# Altium schematic symbol library lib-con.SchLib: 47 symbols
Pins are listed as number, name and electrical type; pins without a type are passive.

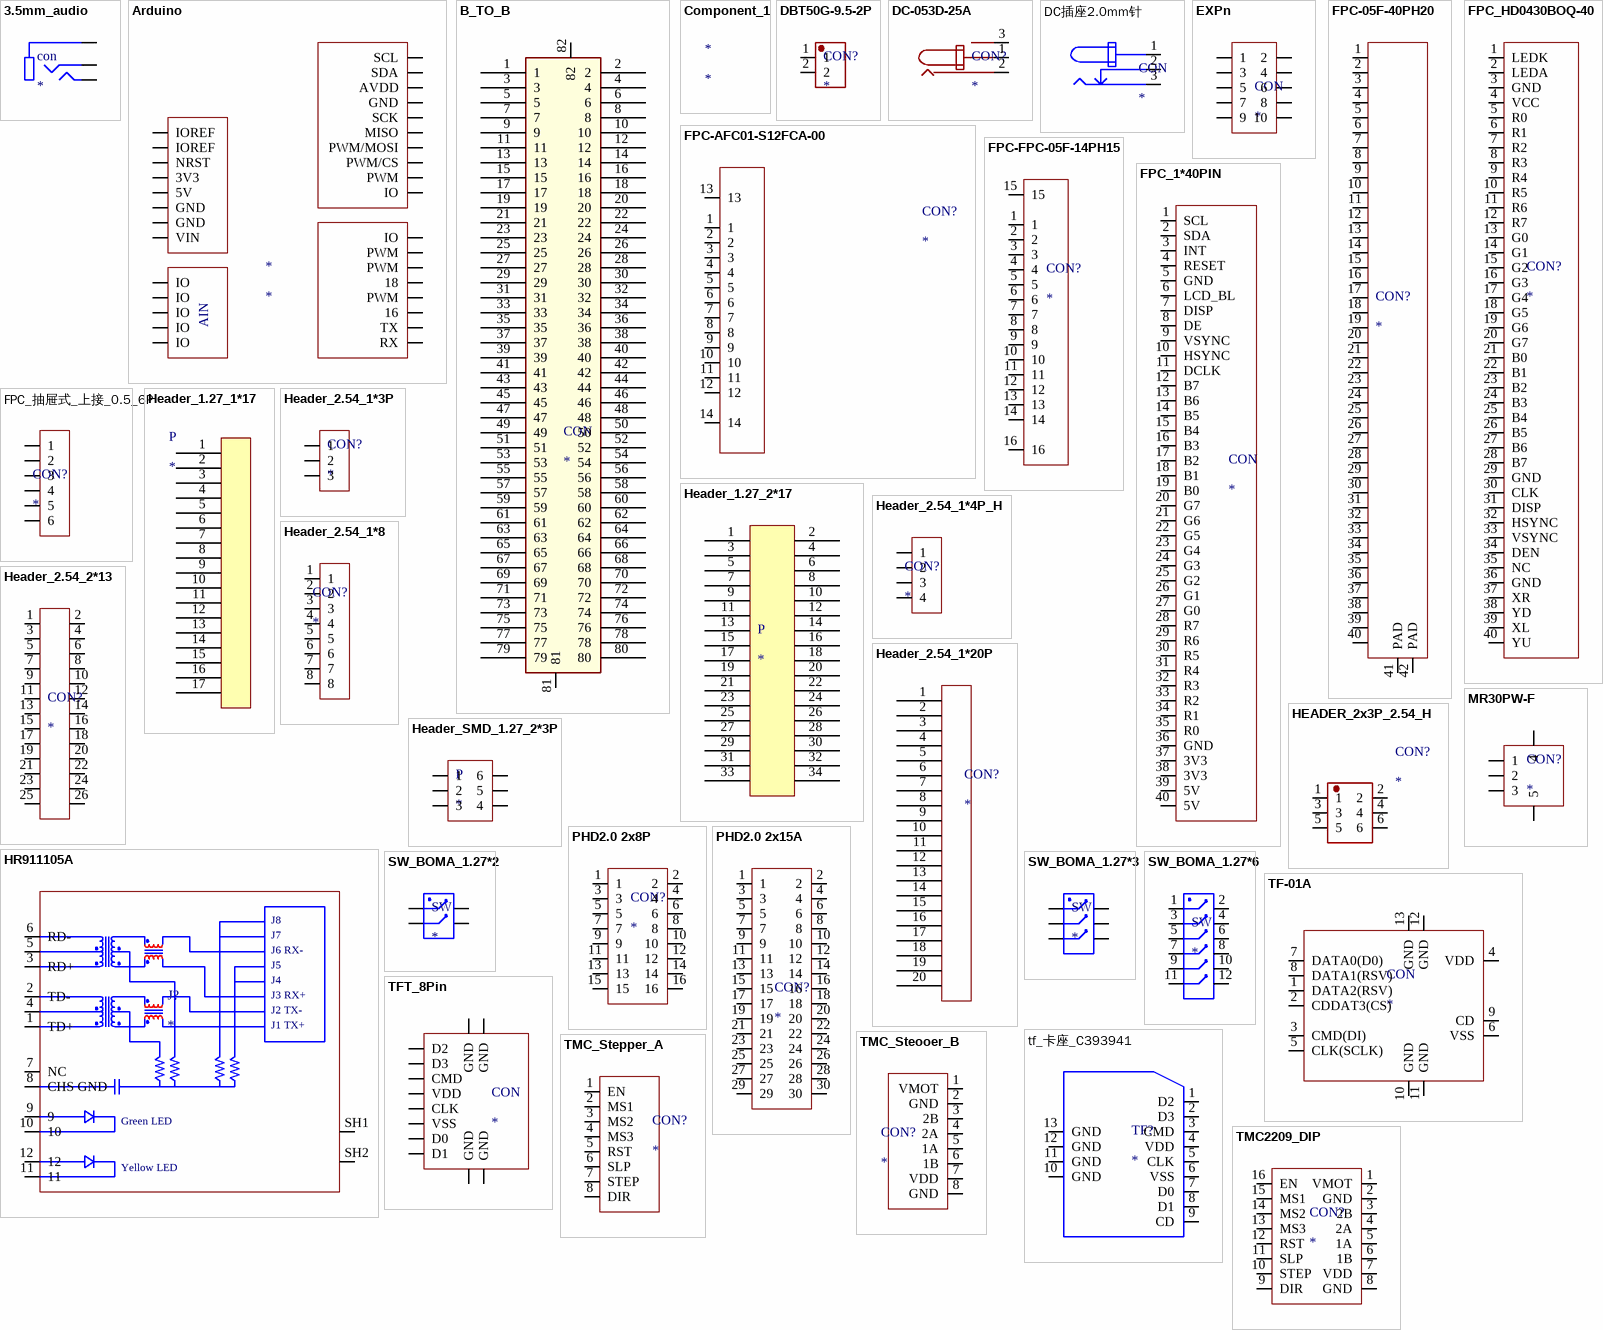
[diagram p0: symbols 3.5mm_audio to TMC_Stepper_A]

## 3.5mm_audio
designator con
footprint 3.5MM_AUDIO
pins: 1 GND, 2, 3

## Arduino
designator *
pins: 1 IOREF, 2 IOREF, 3 NRST, 4 3V3, 5 5V, 6 GND, 7 GND, 8 VIN, 9 IO, 10 IO, 11 IO, 12 IO, 13 IO, 14 RX, 15 TX, 16, 17 PWM, 18, 19 PWM, 20 PWM, 21 IO, 22 IO, 23 PWM, 24 PWM/CS, 25 PWM/MOSI, 26 MISO, 27 SCK, 28 GND, 29 AVDD, 30 SDA, 31 SCL
text: AIN

## B_TO_B
designator CON
pins: 1, 2, 3, 4, 5, 6, 7, 8, 9, 10, 11, 12, 13, 14, 15, 16, 17, 18, 19, 20, 21, 22, 23, 24, 25, 26, 27, 28, 29, 30, 31, 32, 33, 34, 35, 36, 37, 38, 39, 40, 41, 42, 43, 44, 45, 46, 47, 48, 49, 50, 51, 52, 53, 54, 55, 56, 57, 58, 59, 60, 61, 62, 63, 64, 65, 66, 67, 68, 69, 70, 71, 72, 73, 74, 75, 76, 77, 78, 79, 80, 81, 82

## Component_1
designator *

## DBT50G-9.5-2P
designator CON?
立创商城-C395958
pins: 1, 2

## DC-053D-25A
designator CON?
立创商城-C2686352
pins: 1, 2, 3

## DC插座2.0mm针
designator CON
C521451
footprint DC插座2.0mm
pins: 1, 2, 3

## EXPn
designator CON
footprint EXPn
pins: 1, 2, 3, 4, 5, 6, 7, 8, 9, 10

## FPC-05F-40PH20
designator CON?
FPC/FFC连接器 立创商城-C2856812
pins: 1, 2, 3, 4, 5, 6, 7, 8, 9, 10, 11, 12, 13, 14, 15, 16, 17, 18, 19, 20, 21, 22, 23, 24, 25, 26, 27, 28, 29, 30, 31, 32, 33, 34, 35, 36, 37, 38, 39, 40, 41 PAD, 42 PAD

## FPC-AFC01-S12FCA-00
designator CON?
FPC 1*12P 立创商城-C262661
pins: 1, 2, 3, 4, 5, 6, 7, 8, 9, 10, 11, 12, 13, 14

## FPC-FPC-05F-14PH15
designator CON?
立创商城-C2856818
footprint FPC-FPC-05F-14PH15
pins: 1, 2, 3, 4, 5, 6, 7, 8, 9, 10, 11, 12, 13, 14, 15, 16

## FPC_1*40PIN
designator CON
FPC_1*40
pins: 1 SCL, 2 SDA, 3 INT, 4 RESET, 5 GND, 6 LCD_BL, 7 DISP, 8 DE, 9 VSYNC, 10 HSYNC, 11 DCLK, 12 B7, 13 B6, 14 B5, 15 B4, 16 B3, 17 B2, 18 B1, 19 B0, 20 G7, 21 G6, 22 G5, 23 G4, 24 G3, 25 G2, 26 G1, 27 G0, 28 R7, 29 R6, 30 R5, 31 R4, 32 R3, 33 R2, 34 R1, 35 R0, 36 GND, 37 3V3, 38 3V3, 39 5V, 40 5V

## FPC_HD0430BOQ-40
designator CON?
深圳市华阳显示有限公司
footprint FPC-0.5-40P
pins: 1 LEDK, 2 LEDA, 3 GND, 4 VCC, 5 R0, 6 R1, 7 R2, 8 R3, 9 R4, 10 R5, 11 R6, 12 R7, 13 G0, 14 G1, 15 G2, 16 G3, 17 G4, 18 G5, 19 G6, 20 G7, 21 B0, 22 B1, 23 B2, 24 B3, 25 B4, 26 B5, 27 B6, 28 B7, 29 GND, 30 CLK, 31 DISP, 32 HSYNC, 33 VSYNC, 34 DEN, 35 NC, 36 GND, 37 XR, 38 YD, 39 XL, 40 YU

## FPC_抽屉式_上接_0.5_6P
designator CON?
pins: 1, 2, 3, 4, 5, 6

## Header_1.27_1*17
designator P
pins: 1, 2, 3, 4, 5, 6, 7, 8, 9, 10, 11, 12, 13, 14, 15, 16, 17

## Header_1.27_2*17
designator P
footprint Header_F_1.27_2X17
pins: 1, 2, 3, 4, 5, 6, 7, 8, 9, 10, 11, 12, 13, 14, 15, 16, 17, 18, 19, 20, 21, 22, 23, 24, 25, 26, 27, 28, 29, 30, 31, 32, 33, 34

## Header_2.54_1*3P
designator CON?
footprint HEADER_1*3P
pins: 1, 2, 3

## Header_2.54_1*4P_H
designator CON?
footprint HEADER_2.45_1*4P_H
pins: 1, 2, 3, 4

## Header_2.54_1*8
designator CON?
排针 2.54 8P
pins: 1, 2, 3, 4, 5, 6, 7, 8

## Header_2.54_1*20P
designator CON?
pins: 1, 2, 3, 4, 5, 6, 7, 8, 9, 10, 11, 12, 13, 14, 15, 16, 17, 18, 19, 20

## Header_2.54_2*13
designator CON?
排针 2.54 2*13P
footprint HEADER_2.45_2X13P
pins: 1, 2, 3, 4, 5, 6, 7, 8, 9, 10, 11, 12, 13, 14, 15, 16, 17, 18, 19, 20, 21, 22, 23, 24, 25, 26

## HEADER_2x3P_2.54_H
designator CON?
排针
footprint HEADER_2x3P_2.54_H
pins: 1, 2, 3, 4, 5, 6

## Header_SMD_1.27_2*3P
designator P
贴片排针
footprint Header_SMD_1.27X3
pins: 1, 2, 3, 4, 5, 6

## HR911105A
designator J?
RJ45 立创商城-C12074
footprint RJ45-HR911105A
footprint RJ45-HR911105A
pins: 1 TD+, 2 TD-, 3 RD+, 4, 5, 6 RD-, 7 NC, 8 CHS GND, 9, 10, 11, 12, SH1, SH2
text: J8; J7; J6 RX-; J5; J4; J3 RX+; J2 TX-; J1 TX+; Green LED; Yellow LED

## MR30PW-F
designator CON?
立创商城-C19268036
footprint MR30PW-F
pins: 1, 2, 3, 4, 5

## PHD2.0 2x8P
designator CON?
立创商城- C5196933
footprint PHD-2*8ALT
pins: 1, 2, 3, 4, 5, 6, 7, 8, 9, 10, 11, 12, 13, 14, 15, 16

## PHD2.0 2x15A
designator CON?
立创商城-C2845626
footprint PHD_2*15A
pins: 1, 2, 3, 4, 5, 6, 7, 8, 9, 10, 11, 12, 13, 14, 15, 16, 17, 18, 19, 20, 21, 22, 23, 24, 25, 26, 27, 28, 29, 30

## SW_BOMA_1.27*2
designator SW
拨码开关
footprint SW_BOMA_1.27*2P
pins: 1, 2, 3, 4

## SW_BOMA_1.27*3
designator SW
拨码开关
pins: 1, 2, 3, 4, 5, 6

## SW_BOMA_1.27*6
designator SW
拨码开关
footprint SW_BOMA_1.27*6P
pins: 1, 2, 3, 4, 5, 6, 7, 8, 9, 10, 11, 12

## TF-01A
designator CON
footprint TF-01A
pins: 1 DATA2(RSV), 2 CDDAT3(CS), 3 CMD(DI), 4 VDD, 5 CLK(SCLK), 6 VSS, 7 DATA0(D0), 8 DATA1(RSV), 9 CD, 10 GND, 11 GND, 12 GND, 13 GND

## tf_卡座_C393941
designator TF?
立创商城-C393941
footprint TF_SMD_C393941
pins: 1 D2, 2 D3, 3 CMD, 4 VDD, 5 CLK, 6 VSS, 7 D0, 8 D1, 9 CD, 10 GND, 11 GND, 12 GND, 13 GND

## TFT_8Pin
designator CON
立创商城-C86574
footprint SD_TFT
pins: 1 D2, 2 D3, 3 CMD, 4 VDD, 5 CLK, 6 VSS, 7 D0, 8 D1, 9 GND, 10 GND, 11 GND, 12 GND

## TMC2209_DIP
designator CON?
MKS TMC2209
footprint TMC2209_DIP
pins: 1 VMOT, 2 GND, 3 2B, 4 2A, 5 1A, 6 1B, 7 VDD, 8 GND, 9 DIR, 10 STEP, 11 SLP, 12 RST, 13 MS3, 14 MS2, 15 MS1, 16 EN

## TMC_Steooer_B
designator CON?
footprint TMC_Stepper
pins: 1 VMOT, 2 GND, 3 2B, 4 2A, 5 1A, 6 1B, 7 VDD, 8 GND

## TMC_Stepper_A
designator CON?
footprint TMC_Stepper
pins: 1 EN, 2 MS1, 3 MS2, 4 MS3, 5 RST, 6 SLP, 7 STEP, 8 DIR

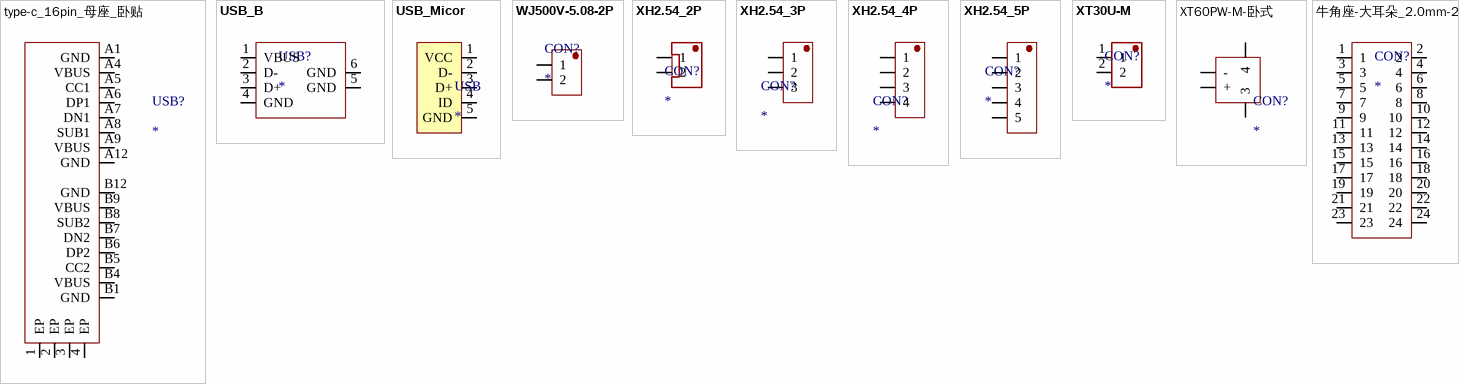
[diagram p1: symbols type-c_16pin_母座_卧贴 to 牛角座-大耳朵_2.0mm-2x10p]

## type-c_16pin_母座_卧贴
designator USB?
立创商城-C709357
pins: 1 EP, 2 EP, 3 EP, 4 EP, A1 GND, A4 VBUS, A5 CC1, A6 DP1, A7 DN1, A8 SUB1, A9 VBUS, A12 GND, B1 GND, B4 VBUS, B5 CC2, B6 DP2, B7 DN2, B8 SUB2, B9 VBUS, B12 GND

## USB_B
designator USB?
立创商城-C498173
footprint USB_B
pins: 1 VBUS, 2 D-, 3 D+, 4 GND, 5 GND, 6 GND

## USB_Micor
designator USB
footprint USB_Micor
pins: 1 VCC, 2 D-, 3 D+, 4 ID, 5 GND

## WJ500V-5.08-2P
designator CON?
接线端子 立创商城-C8465
pins: 1, 2

## XH2.54_2P
designator CON?
footprint XH2.54_2P
pins: 1, 2

## XH2.54_3P
designator CON?
footprint XH2.54_3P
pins: 1, 2, 3

## XH2.54_4P
designator CON?
footprint XH2.54_4P
pins: 1, 2, 3, 4

## XH2.54_5P
designator CON?
pins: 1, 2, 3, 4, 5

## XT30U-M
designator CON?
立创商城-C99101
footprint XT30U-M (AMASS(艾迈斯)轻量版锂电池插头公头 XT30U-M)
pins: 1, 2

## XT60PW-M-卧式
designator CON?
立创商城-C98732
footprint XT60PW-M
pins: 1 -, 2 +, 3, 4

## 牛角座-大耳朵_2.0mm-2x10p
designator CON?
pins: 1, 2, 3, 4, 5, 6, 7, 8, 9, 10, 11, 12, 13, 14, 15, 16, 17, 18, 19, 20, 21, 22, 23, 24